# Altium schematic symbol library TPS61022RWUT.SchLib: 1 symbol
Pins are listed as number, name and electrical type; pins without a type are passive.

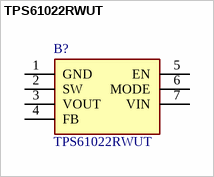
[diagram p0: symbol TPS61022RWUT]

## TPS61022RWUT
designator B?
Switching Voltage Regulators 8-A boost converter with 0.5-V ultra-low input voltage 7-VQFN-HR -40 to 125; Manufacturer_Name: Texas Instruments; Geometry.Height: 1mm; Mouser Part Number: 595-TPS61022RWUT; Mouser Price/Stock: https://www.mouser.co.uk/ProductDetail/Texas-Instruments/TPS61022RWUT?qs=vLWxofP3U2xU7G%2FuAQNIxA%3D%3D; Manufacturer_Part_Number: TPS61022RWUT; Datasheet Link: http://www.ti.com/lit/ds/symlink/tps61022.pdf
footprint TPS61022RWUT
pins: 1 GND, 2 SW, 3 VOUT, 4 FB, 5 EN, 6 MODE, 7 VIN